# EAGLE library part 64800811622 (library WR-WTB)
WR-WTB 1.50 mm Male Vertical Shrouded Header Material Properties Insulator Material Nylon 9T Insulator Flammability Rating UL94 V-0 Insulator Color Beige Contact Material Copper Alloy Contact Plating Tin Contact Type Stamped Certification UL Approval E323964 General Information Operating Temperature -25 °C up to +85 °C Working Voltage 50 V (AC) Withstanding Voltage 500 V (AC) Contact Resistance 20 mΩ RISO 100 MΩ Pitch 1.5 mm Gender Male Type Vertical Packaging Properties Packaging Bag <https://www.we-online.com/components/media/o33366v209%20Multi-WR-WTB150-6480xx11622.jpg> Details see: www.we-online.com/en/components/products/WTB_1_50_MALE_VERTICAL_SHROUDED_HEADER_6480XX11622 <www.we-online.com/catalog/WTB_1_50_MALE_VERTICAL_SHROUDED_HEADER_6480XX11622/?utm_source=eagle_model&utm_medium=description_link&utm_campaign=eisos_eagle> Updated by Ella 2025-03-06 2025 (C) Würth Elektronik
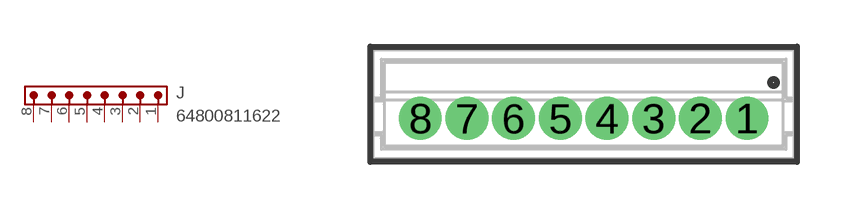
[diagram p101: symbol with the pads of 64800811622; footprint 64800811622]

Designator prefix J

## 64800811622 (CONTACT-RESISTANCE: 20mOhm; DATASHEET-URL: https://www.we-online.com/redexpert/spec/64800811622?ae; GENDER: Male; IR: A; L: 13.5mm; MOUNT: THT; PACKAGING: Bag; PART-NUMBER: 64800811622; PCB-CABLE-PANEL: PCB; PINS: 8; PITCH: 1.5mm; TYPE: Vertical; VALUE: 64800811622; WORKING-VOLTAGE: 50V(AC))  [64800811622]
1  1  pas
2  2  pas
3  3  pas
4  4  pas
5  5  pas
6  6  pas
7  7  pas
8  8  pas

## Footprint 64800811622 (pad centres in mm)
WR-WTB 1.50 mm Male Vertical Shrouded Header,8 Pins
drill 0.87: 1 5.25,-0.45; 2 3.75,-0.45; 3 2.25,-0.45; 4 0.75,-0.45; 5 -0.75,-0.45; 6 -2.25,-0.45; 7 -3.75,-0.45; 8 -5.25,-0.45